# Altium schematic symbol library SCH - MCU - ATSAM - MICROCHIP ATSAMV71N20A-CB TFBGA100.SchLib: 1 symbol
Pins are listed as number, name and electrical type; pins without a type are passive.

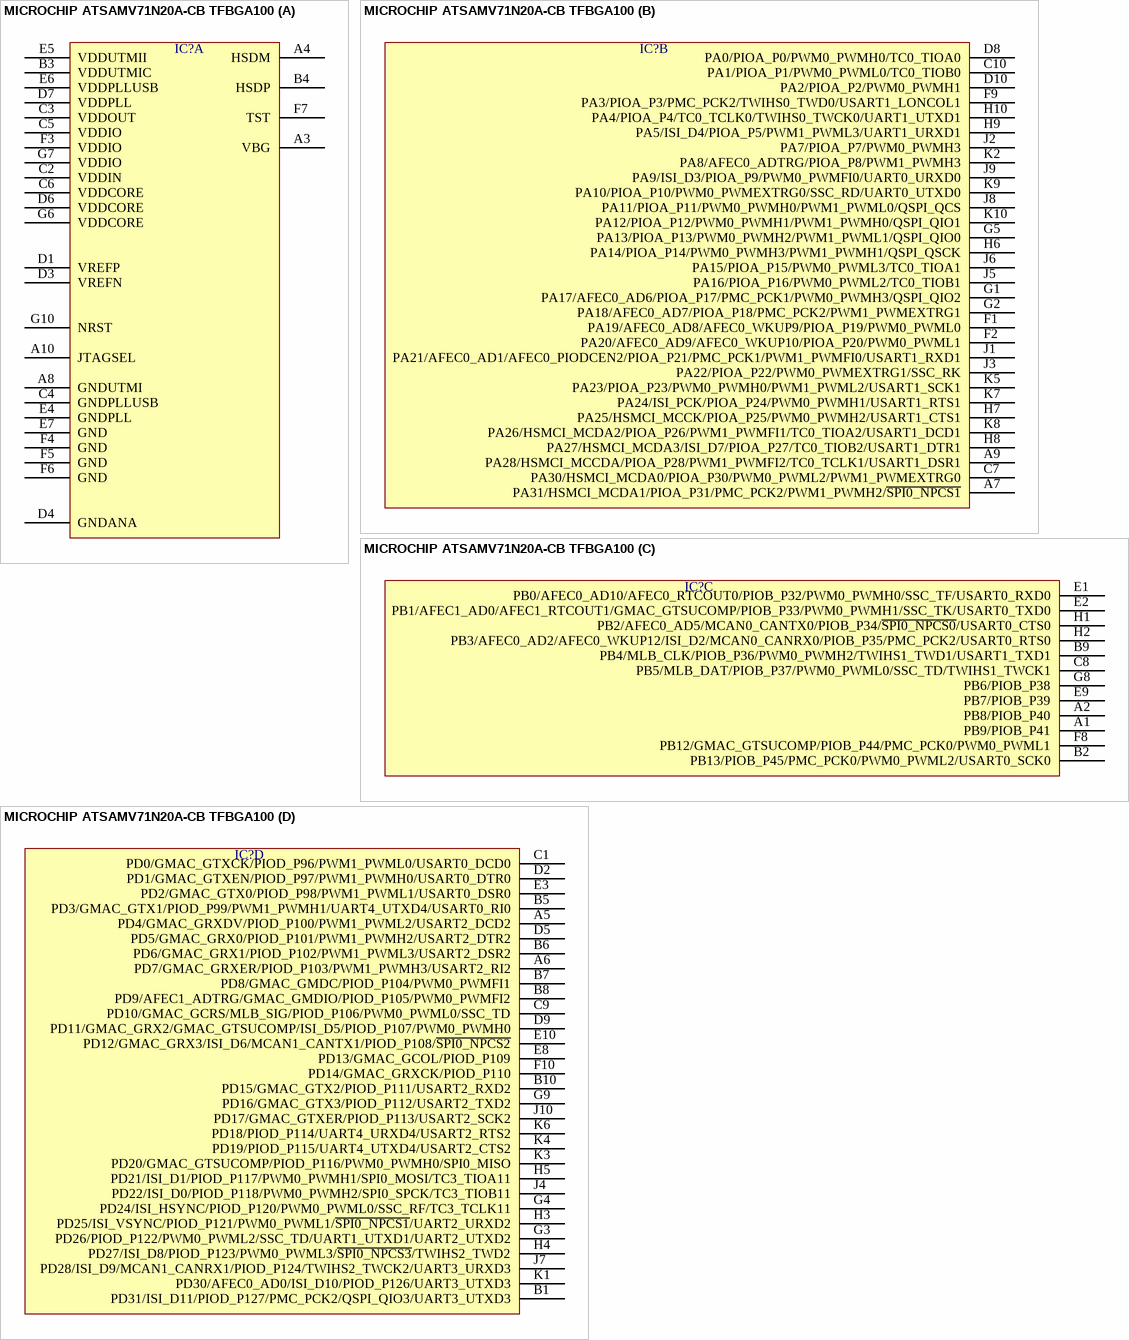
[diagram p0: symbol MICROCHIP ATSAMV71N20A-CB TFBGA100]

## MICROCHIP ATSAMV71N20A-CB TFBGA100
designator IC?  (value not drawn)
part A pins: A3 VBG, A4 HSDM, A8 GNDUTMI, A10 JTAGSEL, B3 VDDUTMIC, B4 HSDP, C2 VDDIN, C3 VDDOUT, C4 GNDPLLUSB, C5 VDDIO, C6 VDDCORE, D1 VREFP, D3 VREFN, D4 GNDANA, D6 VDDCORE, D7 VDDPLL, E4 GNDPLL, E5 VDDUTMII, E6 VDDPLLUSB, E7 GND, F3 VDDIO, F4 GND, F5 GND, F6 GND, F7 TST, G6 VDDCORE, G7 VDDIO, G10 NRST
part B pins: A7 PA31/HSMCI_MCDA1/PIOA_P31/PMC_PCK2/PWM1_PWMH2/~{SPI0_NPCS1}, A9 PA28/HSMCI_MCCDA/PIOA_P28/PWM1_PWMFI2/TC0_TCLK1/USART1_DSR1, C7 PA30/HSMCI_MCDA0/PIOA_P30/PWM0_PWML2/PWM1_PWMEXTRG0, C10 PA1/PIOA_P1/PWM0_PWML0/TC0_TIOB0, D8 PA0/PIOA_P0/PWM0_PWMH0/TC0_TIOA0, D10 PA2/PIOA_P2/PWM0_PWMH1, F1 PA19/AFEC0_AD8/AFEC0_WKUP9/PIOA_P19/PWM0_PWML0, F2 PA20/AFEC0_AD9/AFEC0_WKUP10/PIOA_P20/PWM0_PWML1, F9 PA3/PIOA_P3/PMC_PCK2/TWIHS0_TWD0/USART1_LONCOL1, G1 PA17/AFEC0_AD6/PIOA_P17/PMC_PCK1/PWM0_PWMH3/QSPI_QIO2, G2 PA18/AFEC0_AD7/PIOA_P18/PMC_PCK2/PWM1_PWMEXTRG1, G5 PA13/PIOA_P13/PWM0_PWMH2/PWM1_PWML1/QSPI_QIO0, H6 PA14/PIOA_P14/PWM0_PWMH3/PWM1_PWMH1/QSPI_QSCK, H7 PA25/HSMCI_MCCK/PIOA_P25/PWM0_PWMH2/USART1_CTS1, H8 PA27/HSMCI_MCDA3/ISI_D7/PIOA_P27/TC0_TIOB2/USART1_DTR1, H9 PA5/ISI_D4/PIOA_P5/PWM1_PWML3/UART1_URXD1, H10 PA4/PIOA_P4/TC0_TCLK0/TWIHS0_TWCK0/UART1_UTXD1, J1 PA21/AFEC0_AD1/AFEC0_PIODCEN2/PIOA_P21/PMC_PCK1/PWM1_PWMFI0/USART1_RXD1, J2 PA7/PIOA_P7/PWM0_PWMH3, J3 PA22/PIOA_P22/PWM0_PWMEXTRG1/SSC_RK, J5 PA16/PIOA_P16/PWM0_PWML2/TC0_TIOB1, J6 PA15/PIOA_P15/PWM0_PWML3/TC0_TIOA1, J8 PA11/PIOA_P11/PWM0_PWMH0/PWM1_PWML0/QSPI_QCS, J9 PA9/ISI_D3/PIOA_P9/PWM0_PWMFI0/UART0_URXD0, K2 PA8/AFEC0_ADTRG/PIOA_P8/PWM1_PWMH3, K5 PA23/PIOA_P23/PWM0_PWMH0/PWM1_PWML2/USART1_SCK1, K7 PA24/ISI_PCK/PIOA_P24/PWM0_PWMH1/USART1_RTS1, K8 PA26/HSMCI_MCDA2/PIOA_P26/PWM1_PWMFI1/TC0_TIOA2/USART1_DCD1, K9 PA10/PIOA_P10/PWM0_PWMEXTRG0/SSC_RD/UART0_UTXD0, K10 PA12/PIOA_P12/PWM0_PWMH1/PWM1_PWMH0/QSPI_QIO1
part C pins: A1 PB9/PIOB_P41, A2 PB8/PIOB_P40, B2 PB13/PIOB_P45/PMC_PCK0/PWM0_PWML2/USART0_SCK0, B9 PB4/MLB_CLK/PIOB_P36/PWM0_PWMH2/TWIHS1_TWD1/USART1_TXD1, C8 PB5/MLB_DAT/PIOB_P37/PWM0_PWML0/SSC_TD/TWIHS1_TWCK1, E1 PB0/AFEC0_AD10/AFEC0_RTCOUT0/PIOB_P32/PWM0_PWMH0/SSC_TF/USART0_RXD0, E2 PB1/AFEC1_AD0/AFEC1_RTCOUT1/GMAC_GTSUCOMP/PIOB_P33/PWM0_PWMH1/SSC_TK/USART0_TXD0, E9 PB7/PIOB_P39, F8 PB12/GMAC_GTSUCOMP/PIOB_P44/PMC_PCK0/PWM0_PWML1, G8 PB6/PIOB_P38, H1 PB2/AFEC0_AD5/MCAN0_CANTX0/PIOB_P34/~{SPI0_NPCS0}/USART0_CTS0, H2 PB3/AFEC0_AD2/AFEC0_WKUP12/ISI_D2/MCAN0_CANRX0/PIOB_P35/PMC_PCK2/USART0_RTS0
part D pins: A5 PD4/GMAC_GRXDV/PIOD_P100/PWM1_PWML2/USART2_DCD2, A6 PD7/GMAC_GRXER/PIOD_P103/PWM1_PWMH3/USART2_RI2, B1 PD31/ISI_D11/PIOD_P127/PMC_PCK2/QSPI_QIO3/UART3_UTXD3, B5 PD3/GMAC_GTX1/PIOD_P99/PWM1_PWMH1/UART4_UTXD4/USART0_RI0, B6 PD6/GMAC_GRX1/PIOD_P102/PWM1_PWML3/USART2_DSR2, B7 PD8/GMAC_GMDC/PIOD_P104/PWM0_PWMFI1, B8 PD9/AFEC1_ADTRG/GMAC_GMDIO/PIOD_P105/PWM0_PWMFI2, B10 PD15/GMAC_GTX2/PIOD_P111/USART2_RXD2, C1 PD0/GMAC_GTXCK/PIOD_P96/PWM1_PWML0/USART0_DCD0, C9 PD10/GMAC_GCRS/MLB_SIG/PIOD_P106/PWM0_PWML0/SSC_TD, D2 PD1/GMAC_GTXEN/PIOD_P97/PWM1_PWMH0/USART0_DTR0, D5 PD5/GMAC_GRX0/PIOD_P101/PWM1_PWMH2/USART2_DTR2, D9 PD11/GMAC_GRX2/GMAC_GTSUCOMP/ISI_D5/PIOD_P107/PWM0_PWMH0, E3 PD2/GMAC_GTX0/PIOD_P98/PWM1_PWML1/USART0_DSR0, E8 PD13/GMAC_GCOL/PIOD_P109, E10 PD12/GMAC_GRX3/ISI_D6/MCAN1_CANTX1/PIOD_P108/~{SPI0_NPCS2}, F10 PD14/GMAC_GRXCK/PIOD_P110, G3 PD26/PIOD_P122/PWM0_PWML2/SSC_TD/UART1_UTXD1/UART2_UTXD2, G4 PD24/ISI_HSYNC/PIOD_P120/PWM0_PWML0/SSC_RF/TC3_TCLK11, G9 PD16/GMAC_GTX3/PIOD_P112/USART2_TXD2, H3 PD25/ISI_VSYNC/PIOD_P121/PWM0_PWML1/~{SPI0_NPCS1}/UART2_URXD2, H4 PD27/ISI_D8/PIOD_P123/PWM0_PWML3/~{SPI0_NPCS3}/TWIHS2_TWD2, H5 PD21/ISI_D1/PIOD_P117/PWM0_PWMH1/SPI0_MOSI/TC3_TIOA11, J4 PD22/ISI_D0/PIOD_P118/PWM0_PWMH2/SPI0_SPCK/TC3_TIOB11, J7 PD28/ISI_D9/MCAN1_CANRX1/PIOD_P124/TWIHS2_TWCK2/UART3_URXD3, J10 PD17/GMAC_GTXER/PIOD_P113/USART2_SCK2, K1 PD30/AFEC0_AD0/ISI_D10/PIOD_P126/UART3_UTXD3, K3 PD20/GMAC_GTSUCOMP/PIOD_P116/PWM0_PWMH0/SPI0_MISO, K4 PD19/PIOD_P115/UART4_UTXD4/USART2_CTS2, K6 PD18/PIOD_P114/UART4_URXD4/USART2_RTS2